# Altium schematic symbol library CAPACITOR.Schlib: 1 symbol
Pins are listed as number, name and electrical type; pins without a type are passive.

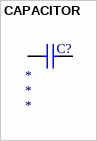
[diagram p0: symbol CAPACITOR]

## CAPACITOR
designator C?  (value not drawn)
Value: *; Package: *; Voltage: *
pins: 1, 2